# EAGLE library part NCN8025A (library laforge)
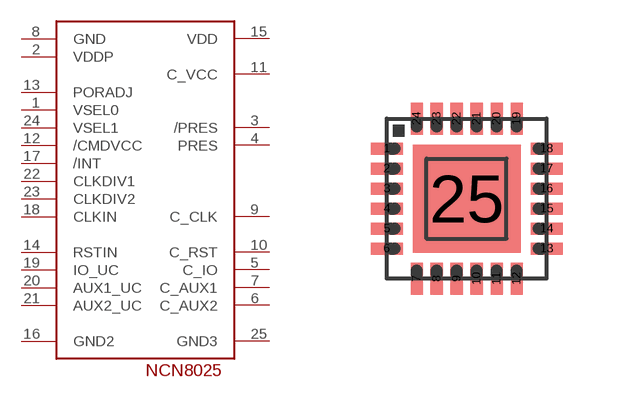
[diagram p5: symbol with the pads of QFN24_4X4; footprint QFN24_4X4]

Designator prefix -

## NCN8025A  [QFN24_4X4]
1  VSEL0  in
2  VDDP  pwr
3  /PRES  in
4  PRES  in
5  C_IO
6  C_AUX2
7  C_AUX1
8  GND  pwr
9  C_CLK  out
10  C_RST  out
11  C_VCC  in
12  /CMDVCC  in
13  PORADJ  in
14  RSTIN  in
15  VDD  pwr
16  GND2  pwr
17  /INT  out
18  CLKIN
19  IO_UC
20  AUX1_UC
21  AUX2_UC
22  CLKDIV1  in
23  CLKDIV2
24  VSEL1  in
25  GND3

## Footprint QFN24_4X4 (pad centres in mm)
smd 0.8 x 0.3: 1 -2.03,1.35; 2 -2.03,0.85; 3 -2.03,0.35; 4 -2.03,-0.15; 5 -2.03,-0.65; 6 -2.03,-1.15; 13 1.97,-1.15; 14 1.97,-0.65; 15 1.97,-0.15; 16 1.97,0.35; 17 1.97,0.85; 18 1.97,1.35
smd 0.3 x 0.8: 7 -1.28,-1.9; 8 -0.78,-1.9; 9 -0.28,-1.9; 10 0.22,-1.9; 11 0.72,-1.9; 12 1.22,-1.9; 19 1.22,2.1; 20 0.72,2.1; 21 0.22,2.1; 22 -0.28,2.1; 23 -0.78,2.1; 24 -1.28,2.1
smd 2.7 x 2.7: 25 -0.03,0.1